# EAGLE library part INTEL_CURIE (library intel-curie)
Symbol & Footprint created by Daniel T
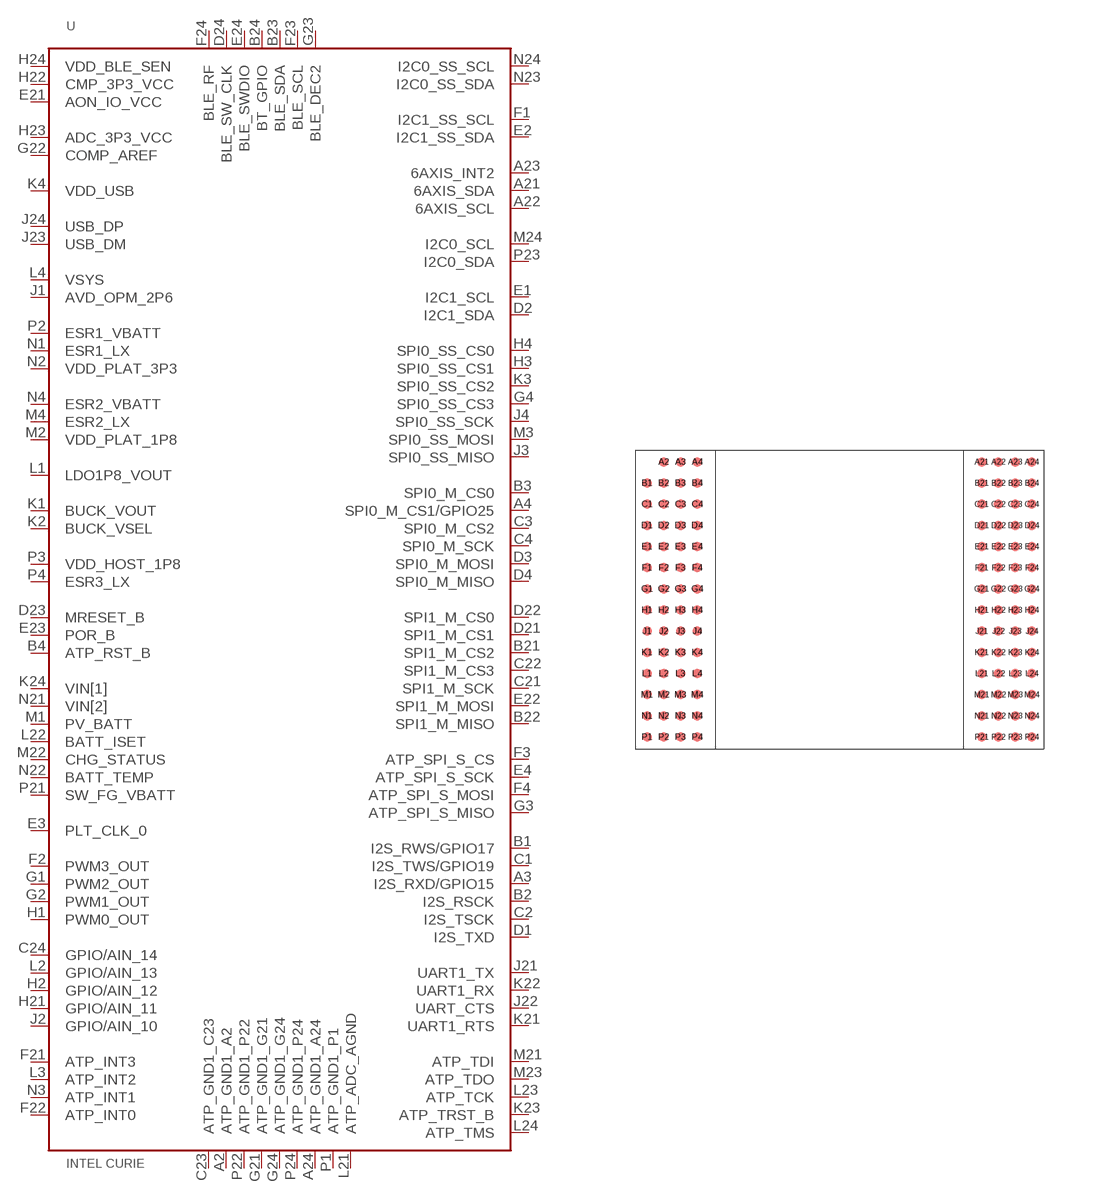
[diagram p0: symbol with the pads of INTEL_CURIE; footprint INTEL_CURIE]

Designator prefix -

## INTEL_CURIE  [INTEL_CURIE]
A2  ATP_GND1_A2
A3  I2S_RXD/GPIO15
A4  SPI0_M_CS1/GPIO25
A21  6AXIS_SDA
A22  6AXIS_SCL
A23  6AXIS_INT2
A24  ATP_GND1_A24
B1  I2S_RWS/GPIO17
B2  I2S_RSCK
B3  SPI0_M_CS0
B4  ATP_RST_B
B21  SPI1_M_CS2
B22  SPI1_M_MISO
B23  BLE_SDA
B24  BT_GPIO
C1  I2S_TWS/GPIO19
C2  I2S_TSCK
C3  SPI0_M_CS2
C4  SPI0_M_SCK
C21  SPI1_M_SCK
C22  SPI1_M_CS3
C23  ATP_GND1_C23
C24  GPIO/AIN_14
D1  I2S_TXD
D2  I2C1_SDA
D3  SPI0_M_MOSI
D4  SPI0_M_MISO
D21  SPI1_M_CS1
D22  SPI1_M_CS0
D23  MRESET_B
D24  BLE_SW_CLK
E1  I2C1_SCL
E2  I2C1_SS_SDA
E3  PLT_CLK_0
E4  ATP_SPI_S_SCK
E21  AON_IO_VCC
E22  SPI1_M_MOSI
E23  POR_B
E24  BLE_SWDIO
F1  I2C1_SS_SCL
F2  PWM3_OUT
F3  ATP_SPI_S_CS
F4  ATP_SPI_S_MOSI
F21  ATP_INT3
F22  ATP_INT0
F23  BLE_SCL
F24  BLE_RF
G1  PWM2_OUT
G2  PWM1_OUT
G3  ATP_SPI_S_MISO
G4  SPI0_SS_CS3
G21  ATP_GND1_G21
G22  COMP_AREF
G23  BLE_DEC2
G24  ATP_GND1_G24
H1  PWM0_OUT
H2  GPIO/AIN_12
H3  SPI0_SS_CS1
H4  SPI0_SS_CS0
H21  GPIO/AIN_11
H22  CMP_3P3_VCC
H23  ADC_3P3_VCC
H24  VDD_BLE_SEN
J1  AVD_OPM_2P6
J2  GPIO/AIN_10
J3  SPI0_SS_MISO
J4  SPI0_SS_SCK
J21  UART1_TX
J22  UART_CTS
J23  USB_DM
J24  USB_DP
K1  BUCK_VOUT
K2  BUCK_VSEL
K3  SPI0_SS_CS2
K4  VDD_USB
K21  UART1_RTS
K22  UART1_RX
K23  ATP_TRST_B
K24  VIN[1]
L1  LDO1P8_VOUT
L2  GPIO/AIN_13
L3  ATP_INT2
L4  VSYS
L21  ATP_ADC_AGND
L22  BATT_ISET
L23  ATP_TCK
L24  ATP_TMS
M1  PV_BATT
M2  VDD_PLAT_1P8
M3  SPI0_SS_MOSI
M4  ESR2_LX
M21  ATP_TDI
M22  CHG_STATUS
M23  ATP_TDO
M24  I2C0_SCL
N1  ESR1_LX
N2  VDD_PLAT_3P3
N3  ATP_INT1
N4  ESR2_VBATT
N21  VIN[2]
N22  BATT_TEMP
N23  I2C0_SS_SDA
N24  I2C0_SS_SCL
P1  ATP_GND1_P1
P2  ESR1_VBATT
P3  VDD_HOST_1P8
P4  ESR3_LX
P21  SW_FG_VBATT
P22  ATP_GND1_P22
P23  I2C0_SDA
P24  ATP_GND1_P24

## Footprint INTEL_CURIE (pad centres in mm)
Footprint for Intel Curie: 111 Balls, 0.57 x 0.45 mm pitch, 10mil metal defined pad
smd 0.254 x 0.254: A2 0.45,0; A3 0.9,0; A4 1.35,0; A21 9.01,0; A22 9.46,0; A23 9.91,0; A24 10.36,0; B1 0,-0.57; B2 0.45,-0.57; B3 0.9,-0.57; B4 1.35,-0.57; B21 9.01,-0.57; B22 9.46,-0.57; B23 9.91,-0.57; B24 10.36,-0.57; C1 0,-1.14; C2 0.45,-1.14; C3 0.9,-1.14; C4 1.35,-1.14; C21 9.01,-1.14; C22 9.46,-1.14; C23 9.91,-1.14; C24 10.36,-1.14; D1 0,-1.71; D2 0.45,-1.71; D3 0.9,-1.71; D4 1.35,-1.71; D21 9.01,-1.71; D22 9.46,-1.71; D23 9.91,-1.71; D24 10.36,-1.71; E1 0,-2.28; E2 0.45,-2.28; E3 0.9,-2.28; E4 1.35,-2.28; E21 9.01,-2.28; E22 9.46,-2.28; E23 9.91,-2.28; E24 10.36,-2.28; F1 0,-2.85; F2 0.45,-2.85; F3 0.9,-2.85; F4 1.35,-2.85; F21 9.01,-2.85; F22 9.46,-2.85; F23 9.91,-2.85; F24 10.36,-2.85; G1 0,-3.42; G2 0.45,-3.42; G3 0.9,-3.42; G4 1.35,-3.42; G21 9.01,-3.42; G22 9.46,-3.42; G23 9.91,-3.42; G24 10.36,-3.42; H1 0,-3.99; H2 0.45,-3.99; H3 0.9,-3.99; H4 1.35,-3.99; H21 9.01,-3.99; H22 9.46,-3.99; H23 9.91,-3.99; H24 10.36,-3.99; J1 0,-4.56; J2 0.45,-4.56; J3 0.9,-4.56; J4 1.35,-4.56; J21 9.01,-4.56; J22 9.46,-4.56; J23 9.91,-4.56; J24 10.36,-4.56; K1 0,-5.13; K2 0.45,-5.13; K3 0.9,-5.13; K4 1.35,-5.13; K21 9.01,-5.13; K22 9.46,-5.13; K23 9.91,-5.13; K24 10.36,-5.13; L1 0,-5.7; L2 0.45,-5.7; L3 0.9,-5.7; L4 1.35,-5.7; L21 9.01,-5.7; L22 9.46,-5.7; L23 9.91,-5.7; L24 10.36,-5.7; M1 0,-6.27; M2 0.45,-6.27; M3 0.9,-6.27; M4 1.35,-6.27; M21 9.01,-6.27; M22 9.46,-6.27; M23 9.91,-6.27; M24 10.36,-6.27; N1 0,-6.84; N2 0.45,-6.84; N3 0.9,-6.84; N4 1.35,-6.84; N21 9.01,-6.84; N22 9.46,-6.84; N23 9.91,-6.84; N24 10.36,-6.84; P1 0,-7.41; P2 0.45,-7.41; P3 0.9,-7.41; P4 1.35,-7.41; P21 9.01,-7.41; P22 9.46,-7.41; P23 9.91,-7.41; P24 10.36,-7.41